# Altium footprint library u3.PcbLib: 1 footprints
Each footprint in its own frame and in the unit in brackets; x right, y up, seen from the top. Pads: shape width x height; smd on the part's side, far side on the other; paste and mask are expansions set on the pad; w line width, h text height; cw(c..) or ccw(c..) is an arc to the next point about the centre after c.
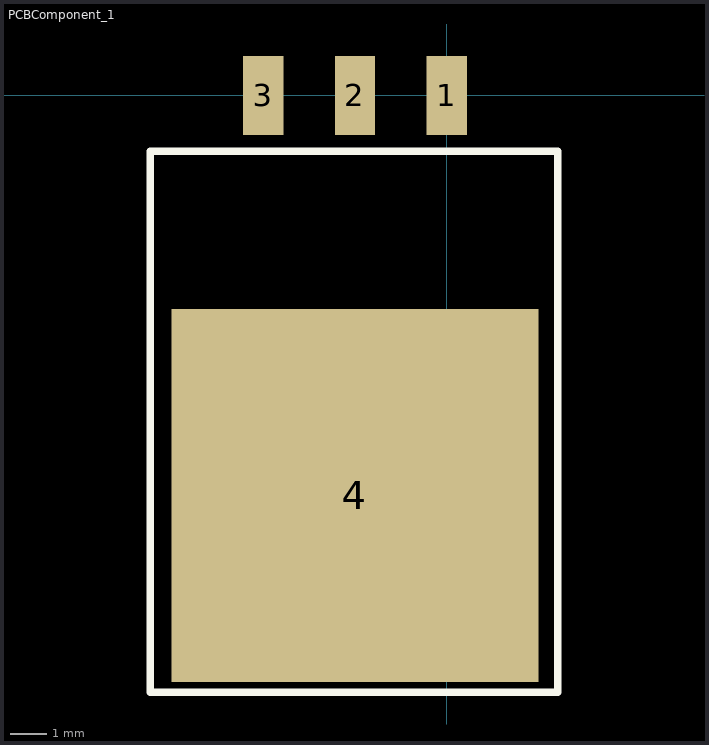
[diagram p0: the footprint, top view; thin cyan lines are the x and y axes]

## PCBComponent_1 [mm]
pads (4):
  rect 1.1x2.15 smd: 1(0,0) 2(-2.5,0) 3(-5,0)
  rect 10x10.16 smd: 4(-2.5,-10.894)
Top Overlay:
  lines w0.2: -8.076,-16.25 3.024,-16.25 3.024,-1.522 -8.076,-1.522 -8.076,-16.25